# Altium schematic symbol library E2S_E2S_033_LIBRARY.SchLib: 86 symbols (part 1 of 2)
Pins are listed as number, name and electrical type; pins without a type are passive.

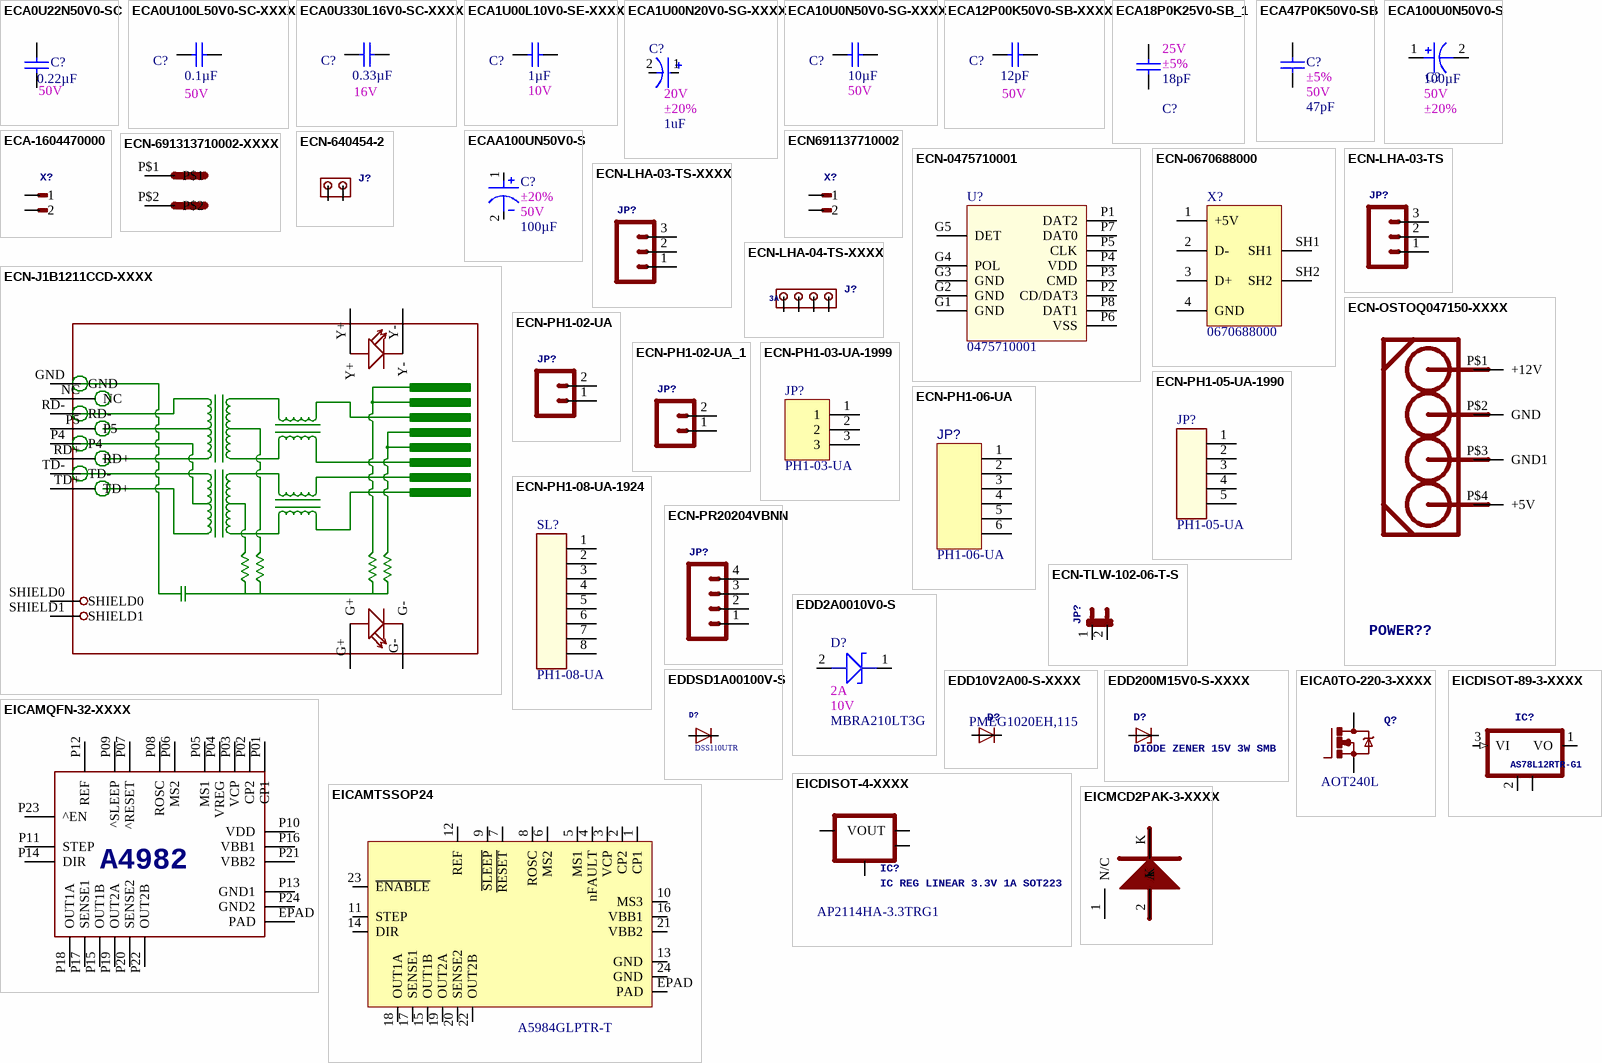
[diagram p0: symbols ECA0U22N50V0-SC to EICMCD2PAK-3-XXXX]

## ECA0U22N50V0-SC
designator C?, comment value 0.22µF  1st Auxiliary Field: 50V  (hidden comment: CAP CER 0.22UF 50V Y5V 0603)
Manufacturer: Yageo; Manufacturer Part Number: CC0603ZRY5V9BB224; Internal Part Number: ECA0U22N50V0-SC; Vendor Part Number: 311-1830-1-ND; Temp Co: Y5V (F); 3rd Auxiliary Field: ROHS3 Compliant; Component Height (mm): 0.90mm; Vendor Name: Digi-Key; 2nd Auxiliary Field: -20%, +80%; Part Type: CAP CER 0.22UF 50V Y5V 0603; 4th Auxiliary Field: *
footprint SMDC0603 (Footprint not found)
pins: 1, 2

## ECA0U100L50V0-SC-XXXX
designator C?, comment value 0.1µF  1st Auxiliary Field: 50V  (hidden comment: CAP CER 0.1UF 50V X7R 0603)
Manufacturer: Samsung Electro-Mechanics; Vendor Part Number: 1276-1935-1-ND; Manufacturer Part Number: CL10B104KB8NNWC; Internal Part Number: ECA0U100L50V0-SC-XXXX; Vendor Name: Digi-Key; 4th Auxiliary Field: RoHS Compliant; Component Height (mm): 0.90mm; Part Type: CAP CER 0.1UF 50V X7R 0603; 3rd Auxiliary Field: *; Temp Co: X7R; 2nd Auxiliary Field: 0.1µF
footprint SMDC0603 (Footprint not found)
pins: 1, 2

## ECA0U330L16V0-SC-XXXX
designator C?, comment value 0.33µF  1st Auxiliary Field: 16V  (hidden comment: CAP CER 0.33UF 16V X7R 0603)
Manufacturer: Samsung Electro-Mechanics; Vendor Part Number: 1276-2048-1-ND; Manufacturer Part Number: CL10B334KO8NNNC; Internal Part Number: ECA0U330L16V0-SC-XXXX; Vendor Name: Digi-Key; 4th Auxiliary Field: RoHS Compliant; Component Height (mm): 0.90mm; Part Type: CAP CER 0.33UF 16V X7R 0603; 3rd Auxiliary Field: *; Temp Co: X7R; 2nd Auxiliary Field: 0.33µF
footprint SMDC0603 (Footprint not found)
pins: 1, 2

## ECA1U00L10V0-SE-XXXX
designator C?, comment value 1µF  1st Auxiliary Field: 10V  (hidden comment: CAP CER 1UF 10V X7R 0805)
Manufacturer: Samsung Electro-Mechanics; Vendor Part Number: 1276-1275-1-ND; Manufacturer Part Number: CL21B105KPFNNNE; Internal Part Number: ECA1U00L10V0-SE-XXXX; Vendor Name: Digi-Key; 4th Auxiliary Field: RoHS Compliant; Component Height (mm): 1.35mm; Temp Co: C0G, NP0; Part Type: CAP CER 1UF 10V X7R 0805; 3rd Auxiliary Field: *; 2nd Auxiliary Field: 1µF
footprint SMDC0805 (Footprint not found)
pins: 1, 2

## ECA1U00N20V0-SG-XXXX
designator C?, comment value 1uF  1st Auxiliary Field: 20V  2nd Auxiliary Field: ±20%  (hidden comment: CAP TANT 1UF 20% 20V 1206)
Manufacturer: AVX Corporation; Manufacturer Part Number: TAJA105M020RNJ; Internal Part Number: ECA1U00N20V0-SG-XXXX; Vendor Part Number: 478-5748-1-ND; Component Height (mm): 1.80mm; Vendor Name: Digi-Key; Temp Co: -55°C ~ 125°C; Part Type: CAP TANT 1UF 20% 20V 1206; 3rd Auxiliary Field: *; 4th Auxiliary Field: *
footprint SMDC1206_TANT (Footprint not found)
pins: 1 +VE, 2 -VE

## ECA10U0N50V0-SG-XXXX
designator C?, comment value 10µF  1st Auxiliary Field: 50V  (hidden comment: CAP CER 10UF 50V X5R 1206)
Manufacturer: Samsung Electro-Mechanics; Vendor Part Number: 1276-6736-1-ND; Manufacturer Part Number: CL31A106MBHNNNE; Internal Part Number: ECA10U0N50V0-SG-XXXX; Vendor Name: Digi-Key; 4th Auxiliary Field: RoHS Compliant; Component Height (mm): 1.80mm; Part Type: CAP CER 10UF 50V X5R 1206; 3rd Auxiliary Field: *; Temp Co: X5R; 2nd Auxiliary Field: 10µF
footprint SMDC1206 (Footprint not found)
pins: 1, 2

## ECA12P00K50V0-SB-XXXX
designator C?, comment value 12pF  1st Auxiliary Field: 50V  (hidden comment: CAP CER 12PF 50V C0G/NPO 0402)
Manufacturer: Yageo; Vendor Part Number: 311-1016-1-ND; Manufacturer Part Number: CC0402JRNPO9BN120; Internal Part Number: ECA12P00K50V0-SB-XXXX; Vendor Name: Digi-Key; 4th Auxiliary Field: RoHS Compliant; Component Height (mm): 0.55mm; Temp Co: C0G, NP0; Part Type: CAP CER 12PF 50V C0G/NPO 0402; 3rd Auxiliary Field: *; 2nd Auxiliary Field: 12pF
footprint SMDC0402
pins: 1, 2

## ECA18P0K25V0-SB_1
designator C?, comment value 18pF  1st Auxiliary Field: 25V  2nd Auxiliary Field: ±5%  (hidden comment: CAP CER 18PF 25V C0G/NP0 0402)
Manufacturer: Walsin Technology Corporation; Manufacturer Part Number: 0402N180J250CT; Internal Part Number: ECA18P0K25V0-SB_1; Vendor Part Number: 1292-1265-1-ND; Component Height (mm): 0.55mm; 3rd Auxiliary Field: ROHS3 Compliant; Temp Co: C0G, NP0; Vendor Name: Digi-Key; Part Type: CAP CER 18PF 25V C0G/NP0 0402; 4th Auxiliary Field: *
footprint SMDC0402 (Footprint not found)
pins: 1, 2

## ECA47P0K50V0-SB
designator C?, comment value 47pF  2nd Auxiliary Field: ±5%  1st Auxiliary Field: 50V  (hidden comment: CAP CER 47PF 50V C0G/NP0 0402)
Manufacturer: Samsung Electro-Mechanics; Manufacturer Part Number: CL05C470JB5NNNC; Internal Part Number: ECA47P0K50V0-SB; Vendor Part Number: 1276-1699-1-ND; Temp Co: C0G, NP0; 3rd Auxiliary Field: ROHS3 Compliant; Component Height (mm): 0.55MM; Vendor Name: Digi-Key; Part Type: CAP CER 47PF 50V C0G/NP0 0402; 4th Auxiliary Field: *
footprint SMDC0402 (Footprint not found)
pins: 1, 2

## ECA100U0N50V0-S
designator C?, comment value 100µF  1st Auxiliary Field: 50V  2nd Auxiliary Field: ±20%  (hidden comment: CAP ALUM 100UF 20% 50V SMD)
Manufacturer: Nichicon; Manufacturer Part Number: UWT1H101MNL1GS; Internal Part Number: ECA100U0N50V0-S; Vendor Part Number: 493-2226-1-ND; 3rd Auxiliary Field: ROHS3 Compliant; Component Height (mm): 10.50mm; Vendor Name: Digi-Key; Temp Co: -55°C ~ 105°C; Part Type: CAP ALUM 100UF 20% 50V SMD; 4th Auxiliary Field: *
footprint CAPAE830X1050N (Footprint not found)
pins: 1 +VE, 2 -VE

## ECA-1604470000
designator X?, comment TERM BLOCK HDR 2POS VERT 3.5MM  (value not drawn)
Manufacturer Part Number: 1604470000; Manufacturer: Weidmüller; Vendor Part Number: 281-4551-ND; Internal Part Number: ECA-1604470000; Vendor: MALE-2; 1st Auxiliary Field: 3.50mm; 2nd Auxiliary Field: 17A; 3rd Auxiliary Field: RoHS; Value: 1604470000; Temp Co: -50°C ~ 100°C; 4rth Auxiliary Field: *; Component height: 11.10mm; Part Type: TERM BLOCK HDR 2POS VERT 3.5MM
footprint WEIDMULLER_1604470000 (Footprint not found)
pins: 1, 2

## ECAA100UN50V0-S
designator C?, comment value 100µF  2nd Auxiliary Field: ±20%  1st Auxiliary Field: 50V  (hidden comment: CAP ALUM 100UF 20% 50V SMD)
Manufacturer: Nichicon; Vendor Part Number: 493-2226-1-ND; Manufacturer Part Number: UWT1H101MNL1GS; Internal Part Number: ECAA100UN50V0-S; Vendor Name: Digi-Key; Component Height (mm): 10.50mm; Temp Co: -55°C ~ 105°C; Part Type: CAP ALUM 100UF 20% 50V SMD; 3rd Auxiliary Field: *; 4th Auxiliary Field: *
footprint CAPRR500W80L1000T1000H1750P (UVK2G100MPD1TD 10µF 400V Aluminum Capacitors Radial, Can 2000 Hrs @ 85°C)
pins: 1 +VE, 2 -VE

## ECN691137710002
designator X?, comment TERM BLK 2POS SIDE ENTRY 5MM PCB  (value not drawn)
Manufacturer Name: Würth Elektronik; Manufacturer Part Number: 691137710002; Vendor Part Number: 732-10955-ND; Internal Part Number: ECN691137710002; 3rd Auxiliary Field: 5.00mm pitch; 1st Auxiliary Field: 300V; 4rth Auxiliary Field: ROHS3 Compliant; 2nd Auxiliary Field: 16A; Vendor Name: Digikey; Value: 691137710002; Temp Co: -30°C ~ 120°C; Part Type: TERM BLK 2POS SIDE ENTRY 5MM PCB
footprint WURTH_691322110002 (Footprint not found)
pins: 1, 2

## ECN-640454-2
designator J?, comment CONN HEADER VERT 2POS 2.54MM  (value not drawn)
Manufacturer Part Number: 640454-2; Vendor Part Number: A19423-ND; Internal Part Number: ECN-640454-2; Manufacturer: TE Connectivity AMP Connectors; 3rd Auxiliary Field: RoHS Compliant; 2nd Auxiliary Field: 250VAC; Vendor: Digikey; Temp Co: -55°C ~ 105°C; Value: 640454-2; 1st Auxiliary Field: 2.54mm; 4rth Auxiliary Field: *; Part Type: CONN HEADER VERT 2POS 2.54MM; Component Height: 13.59mm
footprint TE_640454-2 (Footprint not found)
pins: 1, 2

## ECN-0475710001
designator U?, comment value 0475710001  (hidden comment: CONN MICRO SD CARD PUSH-PULL R/A)
Internal Part Number: ECN-0475710001; Manufacturer: Molex; Vendor Part Number: WM9731CT-ND; 1st Auxiliary Field: 9 (8 + 1); 2nd Auxiliary Field: Push In, Pull Out; 3rd Auxiliary Field: Surface Mount, Right Angle; 4th Auxiliary Field: ROHS3 Compliant; Component Height (mm): 2.30mm; Vendor Name: Digi-Key; Manufacturer Part Number: 0475710001; Part Type: CONN MICRO SD CARD PUSH-PULL R/A; Temp Co: *
footprint MOLEX_0475710001
pins: G1 GND, G2 GND, G3 GND, G4 POL, G5 DET, P1 DAT2, P2 CD/DAT3, P3 CMD, P4 VDD, P5 CLK, P6 VSS, P7 DAT0, P8 DAT1

## ECN-0670688000
designator X?, comment value 0670688000  (hidden comment: CONN RCPT USB2.0 TYPEB 4POS R/A)
Manufacturer: Molex; Internal Part Number: ECN-0670688000; Vendor Part number: WM17113-ND; 1st Auxiliary Field: 30V; 2nd Auxiliary Field: 1.5A; 3rd Auxiliary Field: USB-B (USB TYPE-B); 4th Auxiliary Field: ROHS3 Compliant; Component Height (mm): 11.25mm; Temp Co: 0°C ~ 50°C; Vendor Name: Digi-Key; Manufacturer Part Number: 0670688000; Part Type: CONN RCPT USB2.0 TYPEB 4POS R/A
footprint MOLEX_0670688000 (Footprint not found)
pins: 1 +5V, 2 D-, 3 D+, 4 GND, SH1, SH2

## ECN-691313710002-XXXX
designator U$?, comment TERM BLOCK HDR 2POS 90DEG 5MM  (value not drawn)
Manufacturer Name: Würth Elektronik; Manufacturer Part Number: 691313710002; Vendor Part Number: 732-2799-ND; Internal Part Number: ECN-691313710002-XXXX; 4rth Auxiliary field: ROHS3; 1st Auxiliary field: 300V; 3rd Auxiliary field: 5MM Connector; 2nd Auxiliary field: 20A; Vendor Name: Digikey; Temp Co: -40°C ~ 105°C; Component Height(mm): 12mm; Value: 691313710002; Part Type: TERM BLOCK HDR 2POS 90DEG 5MM
footprint WURTH_691313710002 (Footprint not found)
pins: P$1, P$2

## ECN-J1B1211CCD-XXXX
designator RJ?, comment CONN JACK 1PORT 100 BASE-T PCB  (value not drawn)
Vendor Part Number: 1278-1052-ND; Internal part number: ECN-J1B1211CCD-XXXX; Manufacturer name: WIZnet; Manufacturer Part Number: J1B1211CCD; Vendor Name: Digikey; Temp Co: -40°C ~ 85°C; Component Height(mm): 13.6mm; 3rd Auxiliary Field: RJ45; 4rth Auxiliary Field: ROHS3 Compliant; 1st Auxiliary Field: 10/100 Base-T, AutoMDIX; 2nd Auxiliary Field: Green - Yellow; Value: J1B1211CCD; Part type: CONN JACK 1PORT 100 BASE-T PCB
footprint WIZnet_J1B1211CCD (Footprint not found)
pins: G+, G-, GND, NC, P4, P5, RD+, RD-, SHIELD0, SHIELD1, TD+, TD-, Y+, Y-

## ECN-LHA-03-TS
designator JP?, comment CONN HEADER VERT 3POS 2.54MM  (value not drawn)
Manufacturer part number: LHA-03-TS; Manufacturer Name: Adam Tech; Vendor part number: 2057-LHA-03-TS-ND; Internal part number: ECN-LHA-03-TS; 3rd Auxiliary Field: ROHS3 Compliant; 1st Auxiliary Field: 250VAC; 2nd Auxiliary Field: 3A; Temp Co: -25°C ~ 85°C; Part type: CONN HEADER VERT 3POS 2.54MM; Component height: 14.20mm
footprint MOLEX-1X3
pins: 1, 2, 3

## ECN-LHA-03-TS-XXXX
designator JP?, comment CONN HEADER VERT 3POS 2.54MM  (value not drawn)
Manufacturer part number: LHA-03-TS; Manufacturer Name: Adam Tech; Vendor part number: 2057-LHA-03-TS-ND; Internal part number: ECN-LHA-03-TS-XXXX; 3rd Auxiliary Field: 2.54mm pitch; 1st Auxiliary Field: 250VAC; 2nd Auxiliary Field: 3A; Temp Co: -25°C ~ 85°C; 4rth Auxiliary Field: ROHS3 Compliant; Part type: CONN HEADER VERT 3POS 2.54MM; Component height: 14.20mm
footprint MOLEX-1X3
pins: 1, 2, 3

## ECN-LHA-04-TS-XXXX
designator J?, comment 2nd auxillary field: 3A  (hidden comment: CONN HEADER VERT 4POS 2.54MM)
Manufacturer Part Number: LHA-04-TS; Manufacturer Name: Adam Tech; Vendor Part number: 2057-LHA-04-TS-ND; Internal Part Number: ECN-LHA-04-TS-XXXX; 4rth auxillary field: ROHS3 Compliant; 1st auxillary field: 250VAC; Vendor Name: Digikey; Component Height(mm): 14.20mm; Temp Co: -25°C ~ 85°C; 3rd  auxillary field: *; Part Type: CONN HEADER VERT 4POS 2.54MM
footprint ADAM_ LHA-04-TS (Footprint not found)
pins: 1, 2, 3, 4

## ECN-OSTOQ047150-XXXX
designator POWER??, comment TERM BLOCK HDR 4POS VERT 5MM  (value not drawn)
Manufacturer Part Number: OSTOQ047150; Manufacturer Name: On Shore Technology Inc.; Vendor Part Number: ED2801-ND; Internal Part Number: ECN-OSTOQ047150-XXXX; 3rd Auxiliary Field: ROHS3; 1st Auxiliary Field: 300V; Vendor Name: Digikey; Temp Co: -30°C ~ 105°C; Component Height(mm): 4.00mm; Value: OSTOQ047150; 2nd Auxiliary Field: 4 POS; 4rth Auxiliary Field: ROHS3; Part type: TERM BLOCK HDR 4POS VERT 5MM
footprint ON_OSTOQ047150 (Footprint not found)
pins: P$1 +12V (power), P$2 GND (power), P$3 GND1 (power), P$4 +5V (power)

## ECN-PH1-02-UA
designator JP?, comment CONN HEADER VERT 2POS 2.54MM  (value not drawn)
Manufacturer: Adam Tech; Manufacturer Part Number: 2057-PH1-02-UA-ND; Internal Part Number: ECN-PH1-02-UA; 1st Auxiliary Field: 250VAC; 4rth  Auxiliary Field: ROHS3 Compliant; 2nd Auxiliary Field: 3A; Vendor: Digikey; Temp Co: 40°C ~ 105°C; Value: 2057-PH1-02-UA-ND; Component Height(mm): 11.54mm; 3rd Auxiliary Field: 2.54mm; Vendor Part Number: 2057-PH1-02-UA-ND; Part Type: CONN HEADER VERT 2POS 2.54MM
footprint HDRV2W64P254_1X2_508X254X1062P (Footprint not found)
pins: 1, 2

## ECN-PH1-02-UA_1
designator JP?
Manufacturer Part Number: DNP; Value: DNP
footprint * (Footprint not found)
pins: 1, 2

## ECN-PH1-03-UA-1999
designator JP?, comment value PH1-03-UA  (hidden comment: CONN HEADER VERT 3POS 2.54MM)
Manufacturer: Adam Tech; Internal Part Number: ECN-PH1-03-UA-1999; Vendor Part Number: 2057-PH1-03-UA-ND; 3rd Auxiliary Field: ROHS3 Compliant; Component Height (mm): 8.5 MM; Vendor Name: Digi-Key; Temp Co: -40°C ~ 105°C; 2nd Auxiliary Field: 3A per Contact; Part Type: CONN HEADER VERT 3POS 2.54MM; 4th Auxiliary Field: *; Manufacturer Part Number: PH1-03-UA; 1st Auxiliary Field: 3 Pos
footprint HDRV3W102P254_1X3_762X254X838P (68000-103HLF, BERGSTIK II .100" SR STRAIGHT 3 POS)
pins: 1 (power), 2 (power), 3 (power)
1 alternate drawing of the same symbol

## ECN-PH1-05-UA-1990
designator JP?, comment value PH1-05-UA  (hidden comment: CONN HEADER VERT 5POS 2.54MM)
Internal Part Number: ECN-PH1-05-UA-1990; Manufacturer: Adam Tech; Vendor Part Number: 2057-PH1-05-UA-ND; 1st Auxiliary Field: 250VAC; 2nd Auxiliary Field: 3A; 3rd Auxiliary Field: RoHS3 Compliant; Component Height (mm): 8.50mm; Temp Co: -40°C ~ 105°C; Vendor Name: Digi-Key; 4th Auxiliary Field: *; Manufacturer Part Number: PH1-05-UA; Part Type: CONN HEADER VERT 5POS 2.54MM
footprint HDRV5W64P254_1X5_1270X254X1062P (CONN HEADER .100 SINGL STR 5POS)
pins: 1, 2, 3, 4, 5

## ECN-PH1-06-UA
designator JP?, comment value PH1-06-UA  (hidden comment: CONN HEADER VERT 6POS 2.54MM)
Manufacturer: Adam Tech; Internal Part Number: ECN-PH1-06-UA; Vendor Part Number: 2057-PH1-06-UA-ND; 3rd Auxiliary Field: 0.100" (2.54mm); Component Height (mm): 0.454" (11.54mm); Temp Co: -40°C ~ 105°C; 4th Auxiliary Field: ROHS3 Compliant; Vendor Name: Digi-Key; 2nd Auxiliary Field: Through Hole; Manufacturer Part Number: PH1-06-UA; Part Type: CONN HEADER VERT 6POS 2.54MM; 1st Auxiliary Field: Header
footprint HDRV6W102P254_1X6_1524X250X85P (PPTC061LFBN-RC, Connector Header 6 Position 0.100" (2.54mm) Tin Through Hole)
pins: 1, 2, 3, 4, 5, 6

## ECN-PH1-08-UA-1924
designator SL?, comment value PH1-08-UA  (hidden comment: CONN HEADER VERT 8POS 2.54MM)
Internal Part Number: ECN-PH1-08-UA-1924; Manufacturer: Adam Tech; Vendor Part Number: 2057-PH1-08-UA-ND; 1st Auxiliary Field: 250VAC; 2nd Auxiliary Field: 3A; 3rd Auxiliary Field: RoHS3 Compliant; Component Height (mm): 8.50mm; Temp Co: -40°C ~ 105°C; Vendor Name: Digi-Key; 4th Auxiliary Field: *; Manufacturer Part Number: PH1-08-UA; Part Type: CONN HEADER VERT 8POS 2.54MM
footprint HDRV8W64P254_1X8_2032X250X850P (Footprint not found)
pins: 1, 2, 3, 4, 5, 6, 7, 8

## ECN-PR20204VBNN
designator JP?, comment PIN HEADER, THR, SINGLE ROW, .10  (value not drawn)
Manufacturer: METZ CONNECT USA Inc.; Manufacturer Part Number: PR20204VBNN; Vendor Part Number: 1849-PR20204VBNN-ND; Internal Part Number: ECN-PR20204VBNN; 3rd Auxiliary Field: ROHS3 Compliant; 1st Auxiliary Field: 3A; 2nd Auxiliary Field: 2.54mm; Vendor: Digikey; Value: PR20204VBNN; Temp Co: -40°C ~ 105°C; Component Height(mm): 11.6mm; 4rth Auxiliary Field: *; Part Type: PIN HEADER, THR, SINGLE ROW, .10
footprint HDRV4W102P254_1X4_1016X254X838P (Footprint not found)
pins: 1, 2, 3, 4

## ECN-TLW-102-06-T-S
designator JP?, comment CONN HEADER VERT 2POS 2.54MM  (value not drawn)
Manufacturer: Samtec Inc.; Manufacturer Part Number: MTLW-102-07-G-S-230; Vendor Part Number: SAM15239-ND; Internal Part Number: ECN-MTLW-102-07-G-S-230; 4rth Auxiliary Field: ROHS3 Compliant; 2nd Auxiliary Field: 5.2A per Contact; Vendor: Digikey; Temp Co: -55°C ~ 125°C; Value: MTLW-102-07-G-S-230; 3rd Auxiliary Field: 2.54mm; 1st Auxiliary Field: *; Part Type: CONN HEADER VERT 2POS 2.54MM; Component Height: 10.92mm
footprint JP1
pins: 1, 2

## EDD2A0010V0-S
designator D?, comment value MBRA210LT3G  2nd Auxiliary Field: 2A  1st Auxiliary Field: 10V  (hidden comment: DIODE SCHOTTKY 10V 2A SMA)
Manufacturer: ON Semiconductor; Vendor Part Number: MBRA210LT3GOSCT-ND; Internal Part Number: EDD2A0010V0-S; Vendor Name: Digi-Key; Component Height (mm): 2.2mm; Temp Co: -55°C ~ 125°C; Part Type: DIODE SCHOTTKY 10V 2A SMA; 3rd Auxiliary Field: *; Manufacturer Part Number: MBRA210LT3G; 4th Auxiliary Field: *
footprint DIOM5224X230N (Footprint not found)
pins: 1 Cathode, 2 Anode

## EDD10V2A00-S-XXXX
designator D?, comment value PMEG1020EH,115  (hidden comment: DIODE SCHOTTKY 10V 2A SOD123F)
Manufacturer Name: Nexperia USA Inc.; Vendor Part Number: 1727-3849-1-ND; Internal Part Number: EDD10V2A00-S-XXXX; 4rth Auxiliary Field: ROHS3 Compliant; 2nd Auxiliary Field: 2A (DC); Vendor Name: Digikey; 3rd Auxiliary Field: Schottky; Part Type: DIODE SCHOTTKY 10V 2A SOD123F; 1st Auxiliary Field: 10V; Manufacturer Part Number: PMEG1020EH,115; Operating Temperature: 150°C (Max)
footprint EDD10V2A00-S-XXXX (Footprint not found)
pins: A, C

## EDD200M15V0-S-XXXX
designator D?, comment DIODE ZENER 15V 3W SMB
Manufacturer Name: ON Semiconductor; Manufacturer Part Number: 1SMB5929BT3G; Vendor Part Number: 1SMB5929BT3GOSCT-ND; Internal Part Number: EDD200M15V0-S-XXXX; 3rd Auxiliary Field: 200mA; 4rth Auxiliary Field: ROHS3 Compliant; Vendor Name: Digikey; Temp Co: -65°C ~ 150°C; Value: 1SMB5929BT3G; 1st Auxiliary Field: 15V; 2nd Auxiliary Field: 3W; Part type: DIODE ZENER 15V 3W SMB
footprint DIOM4336X25N (Footprint not found)
pins: A, C

## EDDSD1A00100V-S
designator D?, comment value DSS110UTR  (hidden comment: SCHOTTKY 100V SOD-123FL)
Manufacturer Name: SMC Diode Solutions; Vendor Part Number: 1655-1931-1-ND; Internal Part Number: EDDSD1A00100V-S; 3rd Auxiliary Field: ROHS3; 2nd Auxiliary Field: 1A; Vendor Name: Digikey; Temp Co: -55°C ~ 150°C; Manufacturer part number: DSS110UTR; 1st Auxiliary Field: 100V; 4rth Auxiliary Field: *; Part Type: SCHOTTKY 100V SOD-123FL
footprint SODFL360X110-2N (Footprint not found)
pins: A, C

## EICA0TO-220-3-XXXX
designator Q?, comment value AOT240L  (hidden comment: MOSFET N-CH 40V 20A/105A TO220)
Manufacturer: Alpha & Omega Semiconductor Inc.; Vendor Part Number: 785-1270-5-ND; Internal Part Number: EICA0TO-220-3-XXXX; 2nd Auxiliary Field: 20A (Ta), 105A (Tc); 3rd Auxiliary Field: N-Channel; Vendor: Digikey; 4rth Auxiliary Field: ROHS3 Compliant; Temp Co: -55°C ~ 175°C (TJ); 1st Auxiliary Field: 40V; Component Height: *; Part Type: MOSFET N-CH 40V 20A/105A TO220; Manufacturer Part Number: AOT240L
footprint Alpha_ AOT240L (Footprint not found)
pins: D, G, S

## EICAMQFN-32-XXXX
designator IC?, comment 1st Auxiliary Field: A4982  (hidden comment: IC MTR DRVR BIPOLAR 3-5.5V 32QFN)
Manufacturer Part Number: A4982SETTR-T; Manufacturer: Allegro MicroSystems; Vendor Part Number: 620-1340-1-ND; Internal Part Number: EICAMQFN-32-XXXX; 4rth Auxiliary Field: ROHS3 Compliant; 2nd Auxiliary Field: 1, 1/2, 1/4, 1/16; 3rd Auxiliary Field: 8V ~ 35V; Vendor: Digikey; Value: A4982SETTR-T; Temp Co: 20°C ~ 150°C (TJ); Component Height(mm): *; Part Type: IC MTR DRVR BIPOLAR 3-5.5V 32QFN
footprint TSOP65P630X120-24N (Footprint not found)
pins: EPAD PAD, P01 CP1, P02 CP2, P03 VCP, P04 VREG, P05 MS1, P06 MS2, P07 ^RESET, P08 ROSC, P09 ^SLEEP, P10 VDD, P11 STEP, P12 REF, P13 GND1, P14 DIR, P15 OUT1B, P16 VBB1, P17 SENSE1, P18 OUT1A, P19 OUT2A, P20 SENSE2, P21 VBB2, P22 OUT2B, P23 ^EN, P24 GND2

## EICAMTSSOP24
designator IC?, comment value A5984GLPTR-T  (hidden comment: IC MTR DRV BIPOLAR 8-40V 24TSSOP)
Manufacturer: Allegro MicroSystems; Vendor Part Number: 620-1787-1-ND; Internal Part Number: EICAMTSSOP24; 4rth Auxiliary Field: ROHS3 Compliant; 2nd Auxiliary Field: 1 ~ 1/32; 3rd Auxiliary Field: 8V ~ 40V; Vendor: Digikey; Temp Co: -40°C ~ 150°C (TJ); Manufacturer Part Number: A5984GLPTR-T; Component Height(mm): *; Part Type: IC MTR DRV BIPOLAR 8-40V 24TSSOP; 1st Auxiliary Field: Bipolar
footprint TSOP65P630X120-24N (Footprint not found)
pins: 1 CP1, 2 CP2, 3 VCP, 4 nFAULT, 5 MS1, 6 MS2, 7 ~{RESET}, 8 ROSC, 9 ~{SLEEP}, 10 MS3, 11 STEP, 12 REF, 13 GND, 14 DIR, 15 OUT1B, 16 VBB1, 17 SENSE1, 18 OUT1A, 19 OUT2A, 20 SENSE2, 21 VBB2, 22 OUT2B, 23 ~{ENABLE}, 24 GND, EPAD PAD

## EICDISOT-4-XXXX
designator IC?, comment IC REG LINEAR 3.3V 1A SOT223  value AP2114HA-3.3TRG1
Vendor Part Number: AP2114HA-3.3TRG1DICT-ND; Manufacturer: Diodes Incorporated; Internal Part Number: EICDISOT-4-XXXX; Vendor Name: Digikey; Temp Co: -40°C ~ 85°C; 4th Auxiliary Field: Fixed Output Type; 3rd Auxiliary Field: Positive output configuration; Part Type: IC REG LINEAR 3.3V 1A SOT223; 2nd Auxiliary Field: 1A; 1st Auxiliary Field: 3.3V; Manufacturer Part Number: AP2114HA-3.3TRG1
footprint SOT230P700X180-4N (Footprint not found)
pins: 1 GND, 2 VOUT, 3 VIN, 4 VOUT

## EICDISOT-89-3-XXXX
designator IC?, comment value AS78L12RTR-G1  (hidden comment: IC REG LINEAR 12V 100MA SOT89)
Vendor Part Number: AS78L12RTR-G1DICT-ND; Manufacturer: Diodes Incorporated; Internal Part Number: EICDISOT-89-3-XXXX; Temp Co: -40°C ~ 125°C; Vendor Name: Digikey; 4th Auxiliary Field: ROHS3; 3rd Auxiliary Field: Fixed; Manufacturer Part Number: AS78L12RTR-G1; Part Type: IC REG LINEAR 12V 100MA SOT89; 2nd Auxiliary Field: 100mA; 1st Auxiliary Field: 12V
footprint SOIC127P600X175-8N (Footprint not found)
pins: 1 VO, 2 GND, 2@1 GND, 3 VI (in)

## EICMCD2PAK-3-XXXX
designator D?, comment DIODE SCHOTTKY 20A 150V D2PAK  (value not drawn)
Manufacturer: Micro Commercial Co; Manufacturer Part Number: MBRB20150CT-TP; Vendor Part Number: 353-MBRB20150CT-TPCT-ND; Internal Part Number: EICMCD2PAK-3-XXXX; 4rth Auxiliary Field: ROHS3 Compliant; Vendor: Digikey; Temp Co: 55°C ~ 150°C; Value: MBRB20150CT-TP; 3rd Auxiliary Field: Schottky; 1st Auxiliary Field: 150V; 2nd Auxiliary Field: 20A; Part type: DIODE SCHOTTKY 20A 150V D2PAK; Component Height: *
footprint TO228P970-3N (Footprint not found)
pins: 1 N/C, 2 A, K

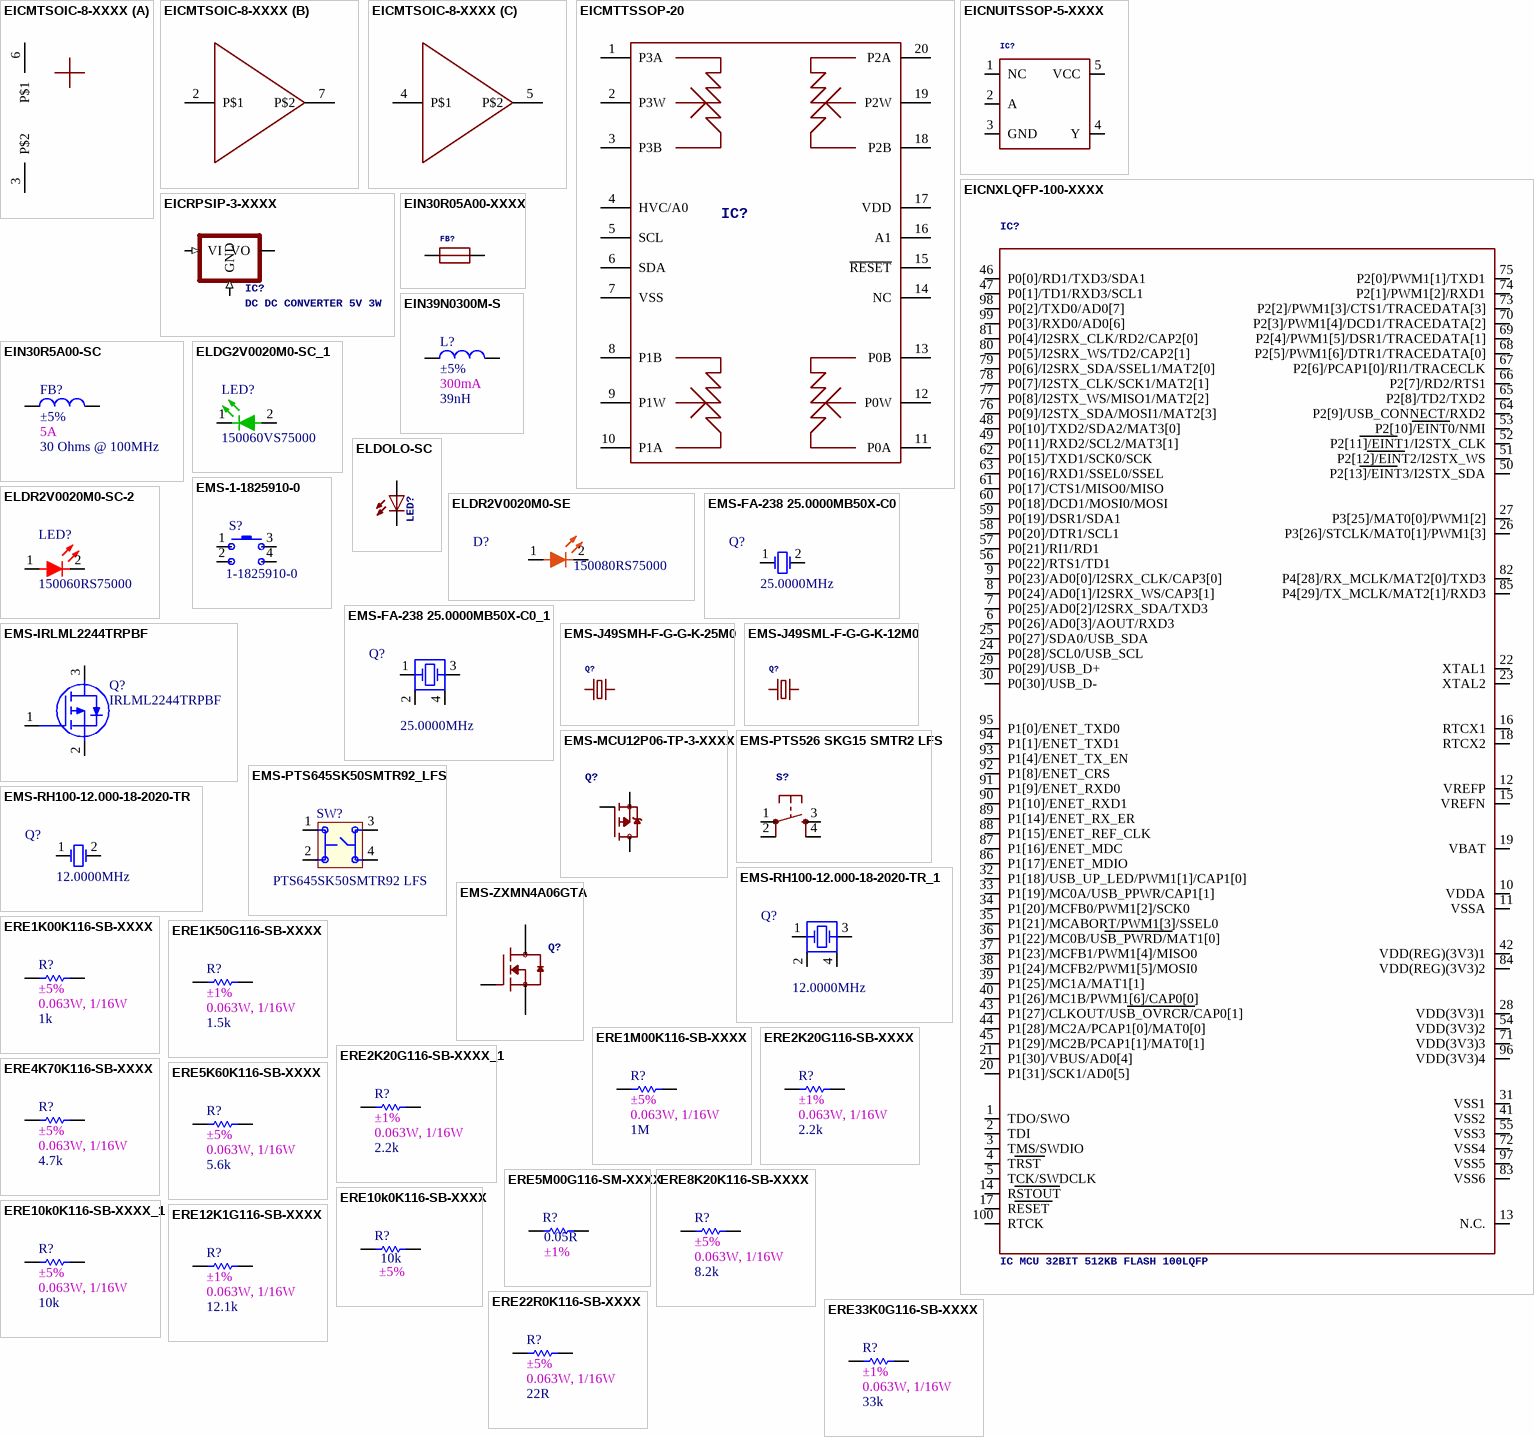
[diagram p1: symbols EICMTSOIC-8-XXXX to ERE33K0G116-SB-XXXX]

## EICMTSOIC-8-XXXX
designator IC?, comment IC GATE DRVR LOW-SIDE 8SOIC  (value not drawn)
Vendor Part Number: MIC4127YME-CT-ND; Manufacturer Part Number: MIC4127YME-TR; Internal Part Number: EICMTSOIC-8-XXXX; Manufacturer: Microchip Technology; 3rd Auxiliary Field: Non-Inverting; Vendor: Digikey; 4rth Auxiliary Field: ROHS3 Compliant; 1st Auxiliary Field: 4.5V ~ 20V; 2nd Auxiliary Field: 1.5A; Temp Co: 40°C ~ 125°C (TJ); Value: MIC4127YME-TR; Part Type: IC GATE DRVR LOW-SIDE 8SOIC; Component Height: *
footprint SOIC127P490X390X175-8N (Footprint not found)
part A pins: 3 P$2, 6 P$1
part B pins: 2 P$1, 7 P$2
part C pins: 4 P$1, 5 P$2

## EICMTTSSOP-20
designator IC?, comment IC DGT POT 50KOHM 257TAP 20TSSOP  (value not drawn)
Manufacturer: Microchip Technology; Manufacturer Part Number: MCP4461-503E/ST; Vendor Part Number: MCP4461-503E/ST-ND; Internal Part number: EICMTTSSOP-20; 1st Auxiliary Field: 50k; 2nd Auxiliary Field: I²C; 4rth Auxiliary Field: ROHS3 Compliant; 3rd Auxiliary Field: 1.8V ~ 5.5V; Vendor: Digikey; Value: MCP4451-503E/ST; Temp Co: 40°C ~ 125°C; Part Type: IC DGT POT 50KOHM 257TAP 20TSSOP; Component Height(mm): *
footprint SOP65P640X120-20N (Footprint not found)
pins: 1 P3A, 2 P3W, 3 P3B, 4 HVC/A0, 5 SCL, 6 SDA, 7 VSS, 8 P1B, 9 P1W, 10 P1A, 11 P0A, 12 P0W, 13 P0B, 14 NC, 15 ~{RESET}, 16 A1, 17 VDD, 18 P2B, 19 P2W, 20 P2A

## EICNUITSSOP-5-XXXX
designator IC?, comment IC INVERTER 1CH 1-INP 5TSSOP  (value not drawn)
Internal Part Number: EICNUITSSOP-5-XXXX; Manufacturer: Nexperia USA Inc.; Manufacturer Part Number: 74AHC1G04GW,125; Vendor Part Number: 1727-3147-1-ND; 3rd Auxiliary Field: 8mA; 1st Auxiliary Field: 1.5V ~ 3.85V; Temp Co: -40°C ~ 125°C; Value: 74AHC1G04GW,125; Vendor Name: Digikey; 4th Auxiliary Field: *; 2nd Auxiliary Field: Inverter; Part Type: IC INVERTER 1CH 1-INP 5TSSOP
footprint SOT23-5SOT65P212X110-5N (Footprint not found)
pins: 1 NC, 2 A, 3 GND (power), 4 Y, 5 VCC (power)

## EICNXLQFP-100-XXXX
designator IC?, comment IC MCU 32BIT 512KB FLASH 100LQFP
Manufacturer: NXP USA Inc.; Manufacturer Part Number: LPC1769FBD100K; Vendor Part Number: 568-LPC1769FBD100K-ND; Internal Part Number: EICNXLQFP-100-XXXX; 2nd Auxiliary Field: 512KB (512K x 8); 1st Auxiliary Field: 32-Bit; 4rth Auxiliary Field: ROHS3 Compliant; 1st Auxiliary Field: 120MHz; Vendor: Digikey; Value: LPC1769FBD100K; Temp Co: -40°C ~ 85°C (TA); Component Height(mm): *; Part Type: IC MCU 32BIT 512KB FLASH 100LQFP
footprint QFP50P1600X1600X160-100N (Footprint not found)
pins: 1 TDO/SWO, 2 TDI, 3 TMS/SWDIO, 4 TRST, 5 TCK/SWDCLK, 6 P0[26]/AD0[3]/AOUT/RXD3, 7 P0[25]/AD0[2]/I2SRX_SDA/TXD3, 8 P0[24]/AD0[1]/I2SRX_WS/CAP3[1], 9 P0[23]/AD0[0]/I2SRX_CLK/CAP3[0], 10 VDDA, 11 VSSA, 12 VREFP, 13 N.C., 14 RSTOUT, 15 VREFN, 16 RTCX1, 17 RESET, 18 RTCX2, 19 VBAT, 20 P1[31]/SCK1/AD0[5], 21 P1[30]/VBUS/AD0[4], 22 XTAL1, 23 XTAL2, 24 P0[28]/SCL0/USB_SCL, 25 P0[27]/SDA0/USB_SDA, 26 P3[26]/STCLK/MAT0[1]/PWM1[3], 27 P3[25]/MAT0[0]/PWM1[2], 28 VDD(3V3)1, 29 P0[29]/USB_D+, 30 P0[30]/USB_D-, 31 VSS1, 32 P1[18]/USB_UP_LED/PWM1[1]/CAP1[0], 33 P1[19]/MC0A/USB_PPWR/CAP1[1], 34 P1[20]/MCFB0/PWM1[2]/SCK0, 35 P1[21]/MCABORT/PWM1[3]/SSEL0, 36 P1[22]/MC0B/USB_PWRD/MAT1[0], 37 P1[23]/MCFB1/PWM1[4]/MISO0, 38 P1[24]/MCFB2/PWM1[5]/MOSI0, 39 P1[25]/MC1A/MAT1[1], 40 P1[26]/MC1B/PWM1[6]/CAP0[0], 41 VSS2, 42 VDD(REG)(3V3)1, 43 P1[27]/CLKOUT/USB_OVRCR/CAP0[1], 44 P1[28]/MC2A/PCAP1[0]/MAT0[0], 45 P1[29]/MC2B/PCAP1[1]/MAT0[1], 46 P0[0]/RD1/TXD3/SDA1, 47 P0[1]/TD1/RXD3/SCL1, 48 P0[10]/TXD2/SDA2/MAT3[0], 49 P0[11]/RXD2/SCL2/MAT3[1], 50 P2[13]/EINT3/I2STX_SDA, 51 P2[12]/EINT2/I2STX_WS, 52 P2[11]/EINT1/I2STX_CLK, 53 P2[10]/EINT0/NMI, 54 VDD(3V3)2, 55 VSS3, 56 P0[22]/RTS1/TD1, 57 P0[21]/RI1/RD1, 58 P0[20]/DTR1/SCL1, 59 P0[19]/DSR1/SDA1, 60 P0[18]/DCD1/MOSI0/MOSI, 61 P0[17]/CTS1/MISO0/MISO, 62 P0[15]/TXD1/SCK0/SCK, 63 P0[16]/RXD1/SSEL0/SSEL, 64 P2[9]/USB_CONNECT/RXD2, 65 P2[8]/TD2/TXD2, 66 P2[7]/RD2/RTS1, 67 P2[6]/PCAP1[0]/RI1/TRACECLK, 68 P2[5]/PWM1[6]/DTR1/TRACEDATA[0], 69 P2[4]/PWM1[5]/DSR1/TRACEDATA[1], 70 P2[3]/PWM1[4]/DCD1/TRACEDATA[2], 71 VDD(3V3)3, 72 VSS4, 73 P2[2]/PWM1[3]/CTS1/TRACEDATA[3], 74 P2[1]/PWM1[2]/RXD1, 75 P2[0]/PWM1[1]/TXD1, 76 P0[9]/I2STX_SDA/MOSI1/MAT2[3], 77 P0[8]/I2STX_WS/MISO1/MAT2[2], 78 P0[7]/I2STX_CLK/SCK1/MAT2[1], 79 P0[6]/I2SRX_SDA/SSEL1/MAT2[0], 80 P0[5]/I2SRX_WS/TD2/CAP2[1], 81 P0[4]/I2SRX_CLK/RD2/CAP2[0], 82 P4[28]/RX_MCLK/MAT2[0]/TXD3, 83 VSS6, 84 VDD(REG)(3V3)2, 85 P4[29]/TX_MCLK/MAT2[1]/RXD3, 86 P1[17]/ENET_MDIO, 87 P1[16]/ENET_MDC, 88 P1[15]/ENET_REF_CLK, 89 P1[14]/ENET_RX_ER, 90 P1[10]/ENET_RXD1, 91 P1[9]/ENET_RXD0, 92 P1[8]/ENET_CRS, 93 P1[4]/ENET_TX_EN, 94 P1[1]/ENET_TXD1, 95 P1[0]/ENET_TXD0, 96 VDD(3V3)4, 97 VSS5, 98 P0[2]/TXD0/AD0[7], 99 P0[3]/RXD0/AD0[6], 100 RTCK

## EICRPSIP-3-XXXX
designator IC?, comment DC DC CONVERTER 5V 3W
Manufacturer Part Number: R-78E5.0-0.5; Manufacturer: Recom Power; Vendor Part Number: 945-1648-5-ND; Internal Part Number: EICRPSIP-3-XXXX; 2nd Auxiliary Field: 500mA; Vendor: R-78; Component Height(mm): 15.01; Temp Co: -40°C ~ 85°C; 1st Auxiliary Field: 5V; 3rd Auxiliary Field: R-78; Part Type: DC DC CONVERTER 5V 3W; 4rth Auxiliary Field: 3W
footprint RECOM_ R-78E5.0-0.5 (Footprint not found)
pins: 1 VI (in), 2 GND (in), 3 VO

## EIN30R5A00-SC
designator FB?, comment value 30 Ohms @ 100MHz  2nd Auxiliary Field: ±5%  1st Auxiliary Field: 5A  (hidden comment: FERRITE BEAD 30 OHM 0603 1LN)
Manufacturer: TDK Corporation; Internal Part Number: EIN30R5A00-SC; Manufacturer Part Number: MPZ1608S300ATAH0; Vendor Part Number: 445-1562-1-ND; 3rd Auxiliary Field: RoHS Compliant; Component Height (mm): 0.75mm; 4th Auxiliary Field: 10mOhm; Vendor Name: Digi-Key; Temp Co: -55°C ~ 125°C; Part Type: FERRITE BEAD 30 OHM 0603 1LN
footprint INDADV500W62L1120D800B (RL187-102J-RC,  FIXED IND 1MH 150MA 6 OHM TH)
pins: 1, 2
1 alternate drawing of the same symbol

## EIN30R05A00-XXXX
designator FB?, comment FERRITE BEAD 30 OHM 0603 1LN  (value not drawn)
Manufacturer Part Number: MPZ1608S300ATAH0; Manufacturer Name: TDK Corporation; Vendor Part Number: 445-1562-1-ND; Internal Part Number: EIN30R05A00-XXXX; 3rd Auxiliary Field: ROHS3 Compliant; 1st Auxiliary Field: 5A; 4rth Auxiliary Field: ROHS3; Vendor Name: Digikey; Temp Co: -55°C ~ 125°C; Value: 30 ohm; 2nd Auxiliary Field: FERRITE; Part type: FERRITE BEAD 30 OHM 0603 1LN
footprint 0603
pins: 1 P$1, 2 P$2

## EIN39N0300M-S
designator L?, comment value 39nH  2nd Auxiliary Field: ±5%  1st Auxiliary Field: 300mA  (hidden comment: FERRITE BEAD 30 OHM 0603 1LN)
Manufacturer: Johanson Technology Inc.; Internal Part Number: EIN39N0300M-S; Manufacturer Part Number: L-14C39NJV4T; Vendor Part Number: 712-1441-1-ND; 3rd Auxiliary Field: RoHS Compliant; Component Height (mm): 0.75mm; 4th Auxiliary Field: 850mOhm; Vendor Name: Digi-Key; Temp Co: -55°C ~ 125°C; Part Type: FIXED IND 39NH 300MA 850 MOHM
footprint SMDL0603 (Footprint not found)
pins: 1, 2
1 alternate drawing of the same symbol

## ELDG2V0020M0-SC_1
designator LED?, comment value 150060VS75000  (hidden comment: LED GREEN CLEAR 0603 SMD)
Manufacturer: Würth Elektronik; Vendor Part Number: 732-4980-1-ND; Internal Part Number: ELDG2V0020M0-SC_1; Vendor Name: Digi-Key; 1st Auxiliary Field: 2V; 2nd Auxiliary Field: 20mA; 3rd Auxiliary Field: RoHS Compliant; Component Height (mm): 0.80mm; Part Type: LED GREEN CLEAR 0603 SMD; Manufacturer Part Number: 150060VS75000; 4th Auxiliary Field: *; Temp Co: *
footprint SMDLED0603 (Footprint not found)
pins: 1 A, 2 K

## ELDOLO-SC
designator LED?, comment LED ORANGE CLEAR CHIP SMD  (value not drawn)
Manufacturer Name: Lite-On Inc.; Manufacturer Part Number: LTST-C190KFKT; Vendor Part Number: 160-1434-1-ND; Internal Part Number: ELDOLO-SC; 1st Auxiliary Field: 2V; 4rth Auxiliary Field: ROHS3 Compliant; 2nd Auxiliary Field: 20mA; Vendor Name: Digikey; Value: LTST-C190KFKT; Component Height(mm): 0.90mm; 3rd Auxiliary Field: Orange; Part Type: LED ORANGE CLEAR CHIP SMD; Temp Co: *
footprint CHIP-LED0805
pins: A, C

## ELDR2V0020M0-SC-2
designator LED?, comment value 150060RS75000  (hidden comment: LED RED CLEAR 0603 SMD)
Manufacturer: Würth Elektronik; Internal Part Number: ELDR2V0020M0-SC-2; Vendor Part Number: 732-4978-1-ND; Component Height (mm): 0.8mm; 3rd Auxiliary Field: RoHS Compliant; Vendor Name: Digi-Key; 1st Auxiliary Field: 2V; 2nd Auxiliary Field: 20mA; Part Type: LED RED CLEAR 0603 SMD; 4th Auxiliary Field: *; Manufacturer Part Number: 150060RS75000; Temp Co: *
footprint SMDLEDR0603 (LED GREEN CLEAR THIN 0603 SMD-LTST-C191KGKT)
pins: 1 A, 2 K

## ELDR2V0020M0-SE
designator D?, comment value 150080RS75000  (hidden comment: LED RED CLEAR 0805 SMD)
Manufacturer: Wurth Electronics Inc.; Internal Part Number: ELDR2V0020M0-SE; Vendor Part Number: 732-4984-1-ND; Component Height (mm): 0.8mm; 3rd Auxiliary Field: RoHS Compliant; Vendor Name: Digi-Key; 1st Auxiliary Field: 2V; 2nd Auxiliary Field: 20mA; Part Type: LED RED CLEAR 0805 SMD; 4th Auxiliary Field: *; Manufacturer Part Number: 150080RS75000; Temp Co: *
footprint SMDLED0805
pins: 1 A, 2 K

## EMS-1-1825910-0
designator S?, comment value 1-1825910-0  (hidden comment: SWITCH TACTILE SPST-NO 0.05A 24V)
Manufacturer: TE Connectivity ALCOSWITCH Switches; Internal Part Number: EMS-1-1825910-0; Vendor Part Number: 450-1652-ND; 1st Auxiliary Field: 0.05A @ 24VDC; 2nd Auxiliary Field: Non-Illuminated; 3rd Auxiliary Field: RoHS Compliant; Component Height (mm): 2.50mm; Temp Co: -35°C ~ 85°C; Vendor Name: Digi-Key; Part Type: SWITCH TACTILE SPST-NO 0.05A 24V; 4th Auxiliary Field: *; Manufacturer Part Number: 1-1825910-0
footprint SW_1-1825910-0 (Footprint not found)
pins: 1, 2, 3, 4

## EMS-FA-238 25.0000MB50X-C0
designator Q?, comment value 25.0000MHz  (hidden comment: CRYSTAL 25.0000MHZ 18PF SMD)
Manufacturer: EPSON; Manufacturer Part Number: FA-238 25.0000MB50X-C0; Internal Part Number: EMS-FA-238 25.0000MB50X-C0; Vendor Part Number: SER4259CT-ND; 2nd Auxiliary Field: 25MHz; Component Height (mm): 0.70mm; Temp Co: -40°C ~ 85°C; Vendor Name: Digi-Key; 3rd Auxiliary Field: *; Part Type: CRYSTAL 25.0000MHZ 18PF SMD; 4th Auxiliary Field: *; 1st Auxiliary Field: 18pF
pins: 1 XTAL_IN, 2 XTAL_OUT

## EMS-FA-238 25.0000MB50X-C0_1
designator Q?, comment value 25.0000MHz  (hidden comment: CRYSTAL 25.0000MHZ 18PF SMD)
Manufacturer: EPSON; Manufacturer Part Number: FA-238 25.0000MB50X-C0; Internal Part Number: EMS-FA-238 25.0000MB50X-C0; Vendor Part Number: SER4259CT-ND; 2nd Auxiliary Field: 25MHz; Component Height (mm): 0.70mm; Temp Co: -40°C ~ 85°C; Vendor Name: Digi-Key; 3rd Auxiliary Field: *; Part Type: CRYSTAL 25.0000MHZ 18PF SMD; 4th Auxiliary Field: *; 1st Auxiliary Field: 18pF
footprint XTAL320X250X08 (Footprint not found)
pins: 1 OSC1, 2 GND, 3 OSC2, 4 GND

## EMS-IRLML2244TRPBF
designator Q?, comment value IRLML2244TRPBF  (hidden comment: P-Channel 20V 4.3A (Ta) 1.3W (Ta) Surface Mount Micro3™/SOT-23)
Manufacturer: Infineon Technologies; Internal Part Number: EMS-IRLML2244TRPBF; Vendor Part Number: IRLML2244TRPBFCT-ND; Component Height (mm): 1.12mm; Temp Co: -55°C ~ 150°C (TJ); Vendor Name: Digi-Key; 1st Auxiliary Field: 20V; 2nd Auxiliary Field: 4.3A (Ta); 3rd Auxiliary Field: *; Part Type: P-Channel 20V 4.3A (Ta) 1.3W (Ta) Surface Mount Micro3™/SOT-23; 4th Auxiliary Field: *; Manufacturer Part Number: IRLML2244TRPBF
footprint SOT95P237X112-3N (Footprint not found)
pins: 1 G, 2 S, 3 D

## EMS-J49SMH-F-G-G-K-25M0
designator Q?, comment CRYSTAL 25.0000MHZ 18PF SMD  (value not drawn)
Manufacturer Name: Jauch Quartz; Manufacturer Part Number: J49SMH-F-G-G-K-25M0; Vendor Part Number: 1908-J49SMH-F-G-G-K-25M0CT-ND; Internal Part Number: EMS-J49SMH-F-G-G-K-25M0; 3rd Auxiliary Field: MHz Crystal; 4rth Auxiliary Field: ROHS3 Compliant; 2nd Auxiliary Field: 30 Ohms; Vendor Name: Digikey; Temp Co: -40°C ~ 85°C; Value: 25MHz; 1st Auxiliary Field: 18pF; Part Type: CRYSTAL 25.0000MHZ 18PF SMD
footprint XTAL1001X480X400 (Footprint not found)
pins: 1, 2

## EMS-J49SML-F-G-G-K-12M0
designator Q?, comment CRYSTAL 12.0000MHZ 18PF SMD12MHz  (value not drawn)
CRYSTAL 12.0000MHZ 18PF SMD; Manufacturer Name: Jauch Quartz; Manufacturer Part Number: J49SML-F-G-G-K-12M0; Vendor Part Number: 1908-J49SML-F-G-G-K-12M0CT-ND; Internal Part Number: EMS-J49SML-F-G-G-K-12M0; 3rd Auxiliary Field: 35 Ohms; 1st Auxiliary Field: MHz Crystal; 4rth Auxiliary Field: ROHS3; Vendor Name: Digikey; Temp Co: -40°C ~ 85°C; Value: 12MHZ; 2nd Auxiliary Field: 18pF; Part type: CRYSTAL 12.0000MHZ 18PF SMD
footprint XTAL1001X480X400 (Footprint not found)
pins: 1, 2

## EMS-MCU12P06-TP-3-XXXX
designator Q?, comment MOSFET P-CH 60V 12A DPAK  (value not drawn)
Manufacturer Name: Micro Commercial Co; Manufacturer Part Number: MCU12P06-TP; Vendor Part Number: 353-MCU12P06-TPCT-ND; Internal Part Number: EMS-MCU12P06-TP-3-XXXX; 3rd Auxiliary Field: P-Channel; 4rth Auxiliary Field: ROHS3 Compliant; 2nd Auxiliary Field: 12A (Tj); Vendor Name: Digikey; Temp Co: -55°C ~ 150°C (TJ); Value: MCU12P06-TP; 1st Auxiliary Field: 60V; Part type: MOSFET P-CH 60V 12A DPAK
footprint TACTILE_SWITCH_SMD
pins: 1 G, 2 S, 3 D

## EMS-PTS526 SKG15 SMTR2 LFS
designator S?, comment TACT 5.2 X 5.2, 1.5 MM H, 260GF,  (value not drawn)
Manufacturer Name: C&K; Manufacturer Part Number: PTS526 SKG15 SMTR2 LFS; Vendor Part Number: CKN12223-1-ND; Internal Part Number: EMS-PTS526 SKG15 SMTR2 LFS; 3rd Auxiliary Field: Non-Illuminated; 1st Auxiliary Field: 12VDC; 4rth Auxiliary Field: ROHS3 Compliant; 2nd Auxiliary Field: 0.05A; Vendor Name: Digikey; Temp Co: -20°C ~ 70°C; Value: PTS526 SKG15 SMTR2 LFS; Part type: TACT 5.2 X 5.2, 1.5 MM H, 260GF,
footprint SW_ PTS526 SKG15 SMTR2 LFS (Footprint not found)
pins: 1, 2, 3, 4

## EMS-PTS645SK50SMTR92_LFS
designator SW?, comment value PTS645SK50SMTR92 LFS  (hidden comment: SWITCH TACTILE SPST-NO 0.05A 12V)
Manufacturer: C&K; Manufacturer Part Number: PTS645SK50SMTR92_LFS; Internal Part Number: EMS-PTS645SK50SMTR92 LFS; Vendor Part Number: CKN9087CT-ND; 3rd Auxiliary Field: ROHS3 Compliant; Component Height (mm): 5.00mm; Temp Co: -20°C ~ 60°C; Vendor Name: Digi-Key; 2nd Auxiliary Field: 0.05A @ 12VDC; Part Type: SWITCH TACTILE SPST-NO 0.05A 12V; 4th Auxiliary Field: *; 1st Auxiliary Field: SPST-NO
footprint SW_PTS645SK43SMTR92 LFS
pins: 1, 2, 3, 4

## EMS-RH100-12.000-18-2020-TR
designator Q?, comment value 12.0000MHz  (hidden comment: CRYSTAL 12.0000MHZ 18PF SMD)
Manufacturer: Raltron Electronics; Manufacturer Part Number: RH100-12.000-18-2020-TR; Internal Part Number: EMS-RH100-12.000-18-2020-TR; Vendor Part Number: 2151-RH100-12.000-18-2020-TRCT-ND; 2nd Auxiliary Field: 12MHz; Component Height (mm): 0.80mm; Temp Co: -20°C ~ 70°C; Vendor Name: Digi-Key; 3rd Auxiliary Field: *; Part Type: CRYSTAL 12.0000MHZ 18PF SMD; 4th Auxiliary Field: *; 1st Auxiliary Field: 18pF
pins: 1 XTAL_IN, 2 XTAL_OUT

## EMS-RH100-12.000-18-2020-TR_1
designator Q?, comment value 12.0000MHz  (hidden comment: CRYSTAL 12.0000MHZ 18PF SMD)
Manufacturer: Raltron Electronics; Manufacturer Part Number: RH100-12.000-18-2020-TR; Internal Part Number: EMS-RH100-12.000-18-2020-TR; Vendor Part Number: 2151-RH100-12.000-18-2020-TRCT-ND; 2nd Auxiliary Field: 12MHz; Component Height (mm): 0.80mm; Temp Co: -20°C ~ 70°C; Vendor Name: Digi-Key; 3rd Auxiliary Field: *; Part Type: CRYSTAL 12.0000MHZ 18PF SMD; 4th Auxiliary Field: *; 1st Auxiliary Field: 18pF
footprint XTAL320X250X08 (Footprint not found)
pins: 1 OSC1, 2 GND, 3 OSC2, 4 GND

## EMS-ZXMN4A06GTA
designator Q?, comment MOSFET N-CH 40V 5A SOT223  (value not drawn)
Manufacturer Part Number: ZXMN4A06GTA; Vendor Part Number: ZXMN4A06GCT-ND; Internal Part Number: EMS-ZXMN4A06GTA; 3rd Auxiliary Field: N-Channel; 4rth Auxiliary Field: ipc-7351-transistor; 2nd Auxiliary Field: 5A (Ta); Manuafacturer Name: Diodes Incorporated; Vendor Name: Digikey; Temp Co: -55°C ~ 150°C (TJ); Component Height(mm): 1.8mm; Value: ZXMN4A06GTA; 1st Auxiliary Field: 40V; Part Type: MOSFET N-CH 40V 5A SOT223
footprint SOT230P700X165-4N (Footprint not found)
pins: 1 G, 3 S, 4 D

## ERE1K00K116-SB-XXXX
designator R?, comment value 1k  2nd Auxiliary Field: ±5%  1st Auxiliary Field: 0.063W, 1/16W  (hidden comment: RES 1K OHM 5% 1/16W 0402)
Manufacturer: Bourns Inc.; Vendor Part Number: RMCF0402JT1K00CT-ND; Manufacturer Part Number: RMCF0402JT1K00; Internal Part Number: ERE1K00K116-SB-XXXX; Vendor Name: Digi-Key; 3rd Auxiliary Field: RoHS Compliant; Component Height (mm): 0.4mm; Temp Co: ±100ppm/°C; Part Type: RES 1K OHM 5% 1/16W 0402; 4th Auxiliary Field: *
footprint SMDR0402 (Footprint not found)
pins: 1, 2

## ERE1K50G116-SB-XXXX
designator R?, comment value 1.5k  2nd Auxiliary Field: ±1%  1st Auxiliary Field: 0.063W, 1/16W  (hidden comment: RES SMD 1.5K OHM 1% 1/16W 0402)
Manufacturer: Bourns Inc.; Vendor Part Number: CR0402-FX-1501GLFCT-ND; Manufacturer Part Number: CR0402-FX-1501GLF; Internal Part Number: ERE1K50G116-SB-XXXX; Vendor Name: Digi-Key; 3rd Auxiliary Field: RoHS Compliant; Component Height (mm): 0.4mm; Temp Co: ±100ppm/°C; Part Type: RES SMD 1.5K OHM 1% 1/16W 0402; 4th Auxiliary Field: *
footprint SMDR0402 (Footprint not found)
pins: 1, 2

## ERE1M00K116-SB-XXXX
designator R?, comment value 1M  2nd Auxiliary Field: ±5%  1st Auxiliary Field: 0.063W, 1/16W  (hidden comment: RES 1M OHM 5% 1/16W 0402)
Manufacturer: Stackpole Electronics Inc; Vendor Part Number: RMCF0402JT1M00CT-ND; Manufacturer Part Number: RMCF0402JT1M00; Internal Part Number: ERE1M00K116-SB-XXXX; Vendor Name: Digi-Key; 3rd Auxiliary Field: RoHS Compliant; Component Height (mm): 0.4mm; Temp Co: ±100ppm/°C; Part Type: RES 1M OHM 5% 1/16W 0402; 4th Auxiliary Field: *
footprint SMDR0402 (Footprint not found)
pins: 1, 2

## ERE2K20G116-SB-XXXX
designator R?, comment value 2.2k  2nd Auxiliary Field: ±1%  1st Auxiliary Field: 0.063W, 1/16W  (hidden comment: RES SMD 2.2K OHM 1% 1/16W 0402)
Manufacturer: Bourns Inc.; Vendor Part Number: CR0402-FX-2201GLFCT-ND; Manufacturer Part Number: CR0402-FX-2201GLF; Internal Part Number: ERE2K20G116-SB-XXXX; Vendor Name: Digi-Key; 3rd Auxiliary Field: RoHS Compliant; Component Height (mm): 0.37mm; Temp Co: ±100ppm/°C; Part Type: RES SMD 2.2K OHM 1% 1/16W 0402; 4th Auxiliary Field: *
footprint SMDR0402 (Footprint not found)
pins: 1, 2

## ERE2K20G116-SB-XXXX_1
designator R?, comment value 2.2k  2nd Auxiliary Field: ±1%  1st Auxiliary Field: 0.063W, 1/16W  (hidden comment: RES 2.2K OHM 1% 1/16W 0402)
Manufacturer: Stackpole Electronics Inc; Vendor Part Number: RMCF0402FT2K20CT-ND; Manufacturer Part Number: RMCF0402FT2K20; Internal Part Number: ERE2K20G116-SB-XXXX; Vendor Name: Digi-Key; 3rd Auxiliary Field: RoHS Compliant; Component Height (mm): 0.4mm; Temp Co: ±100ppm/°C; Part Type: RES 2.2K OHM 1% 1/16W 0402; 4th Auxiliary Field: *
footprint SMDR0402 (Footprint not found)
pins: 1, 2

## ERE4K70K116-SB-XXXX
designator R?, comment value 4.7k  2nd Auxiliary Field: ±5%  1st Auxiliary Field: 0.063W, 1/16W  (hidden comment: RES 5.6K OHM 5% 1/16W 0402)
Manufacturer: Stackpole Electronics Inc; Vendor Part Number: RMCF0402JT4K70CT-ND; Manufacturer Part Number: RMCF0402JT4K70; Internal Part Number: ERE4K70K116-SB-XXXX; Vendor Name: Digi-Key; 3rd Auxiliary Field: RoHS Compliant; Component Height (mm): 0.4mm; Temp Co: ±100ppm/°C; Part Type: RES 4.7K OHM 5% 1/16W 0402; 4th Auxiliary Field: *
footprint SMDR0402 (Footprint not found)
pins: 1, 2

## ERE5K60K116-SB-XXXX
designator R?, comment value 5.6k  2nd Auxiliary Field: ±5%  1st Auxiliary Field: 0.063W, 1/16W  (hidden comment: RES 5.6K OHM 5% 1/16W 0402)
Manufacturer: Stackpole Electronics Inc; Vendor Part Number: RMCF0402JT5K60CT-ND; Manufacturer Part Number: RMCF0402JT5K60; Internal Part Number: ERE5K60K116-SB-XXXX; Vendor Name: Digi-Key; 3rd Auxiliary Field: RoHS Compliant; Component Height (mm): 0.4mm; Temp Co: ±100ppm/°C; Part Type: RES 5.6K OHM 5% 1/16W 0402; 4th Auxiliary Field: *
footprint SMDR0402 (Footprint not found)
pins: 1, 2

## ERE5M00G116-SM-XXXX
designator R?, comment value 0.05R  2nd Auxiliary Field: ±1%  (hidden comment: RES 0.05 OHM 1% 2W 2512)
Manufacturer: Stackpole Electronics Inc; Vendor Part Number: CSRN2512FK50L0CT-ND; Manufacturer Part Number: CSRN2512FK50L0; Internal Part Number: ERE5M00G116-SM-XXXX; Vendor Name: Digi-Key; 4th Auxiliary Field: ROHS3 Compliant; Component Height (mm): 0.70mm; Temp Co: ±200ppm/°C; 1st Auxiliary Field: 0.063W, 1/16W; Part Type: RES 0.05 OHM 1% 2W 2512; 3rd Auxiliary Field: 2W
footprint SMDR0402 (Footprint not found)
pins: 1, 2

## ERE8K20K116-SB-XXXX
designator R?, comment value 8.2k  2nd Auxiliary Field: ±5%  1st Auxiliary Field: 0.063W, 1/16W  (hidden comment: RES 8.2K OHM 5% 1/16W 0402)
Manufacturer: Stackpole Electronics Inc; Vendor Part Number: 738-RMCF0402JT8K20CT-ND; Manufacturer Part Number: RMCF0402JT8K20; Internal Part Number: ERE8K20K116-SB-XXXX; Vendor Name: Digi-Key; 3rd Auxiliary Field: RoHS Compliant; Component Height (mm): 0.4mm; Temp Co: ±100ppm/°C; Part Type: RES 8.2K OHM 5% 1/16W 0402; 4th Auxiliary Field: *
footprint SMDR0402 (Footprint not found)
pins: 1, 2

## ERE10k0K116-SB-XXXX
designator R?, comment value 10k  2nd Auxiliary Field: ±5%  (hidden comment: RES SMD 10K OHM 5% 1/16W 0402)
Manufacturer: Bourns Inc.; Vendor Part Number: CR0402-JW-103GLFCT-ND; Manufacturer Part Number: CR0402-JW-103GLF; Internal Part Number: ERE10k0K116-SB-XXXX; Vendor Name: Digi-Key; 3rd Auxiliary Field: RoHS Compliant; Component Height (mm): 0.4mm; Temp Co: ±200ppm/°C; 1st Auxiliary Field: 0.063W, 1/16W; Part Type: RES SMD 10K OHM 5% 1/16W 0402; 4th Auxiliary Field: *
footprint SMDR0402 (Footprint not found)
pins: 1, 2

## ERE10k0K116-SB-XXXX_1
designator R?, comment value 10k  2nd Auxiliary Field: ±5%  1st Auxiliary Field: 0.063W, 1/16W  (hidden comment: RES SMD 10 KOHM 5% 1/16W 0402)
Manufacturer: Delta Electronics/Cyntec; Vendor Part Number: 2037-PFR05S-103-JNHCT-ND; Manufacturer Part Number: PFR05S-103-JNH; Internal Part Number: ERE10k0K116-SB-XXXX; Vendor Name: Digi-Key; 3rd Auxiliary Field: RoHS Compliant; Component Height (mm): 0.4mm; Temp Co: ±200ppm/°C; Part Type: RES SMD 10 KOHM 5% 1/16W 0402; 4th Auxiliary Field: *
footprint SMDR0402 (Footprint not found)
pins: 1, 2

## ERE12K1G116-SB-XXXX
designator R?, comment value 12.1k  2nd Auxiliary Field: ±1%  1st Auxiliary Field: 0.063W, 1/16W  (hidden comment: RES 12.1K OHM 1% 1/16W 0402)
Manufacturer: Stackpole Electronics Inc; Vendor Part Number: RMCF0402FT12K1CT-ND; Manufacturer Part Number: RMCF0402FT12K1; Internal Part Number: ERE12K1G116-SB-XXXX; Vendor Name: Digi-Key; 3rd Auxiliary Field: RoHS Compliant; Component Height (mm): 0.4mm; Temp Co: ±100ppm/°C; Part Type: RES 12.1K OHM 1% 1/16W 0402; 4th Auxiliary Field: *
footprint SMDR0402 (Footprint not found)
pins: 1, 2

## ERE22R0K116-SB-XXXX
designator R?, comment value 22R  2nd Auxiliary Field: ±5%  1st Auxiliary Field: 0.063W, 1/16W  (hidden comment: RES 22 OHM 5% 1/16W 0402)
Manufacturer: Stackpole Electronics Inc; Vendor Part Number: RMCF0402JT22R0CT-ND; Manufacturer Part Number: RMCF0402JT22R0; Internal Part Number: ERE22R0K116-SB-XXXX; Vendor Name: Digi-Key; 3rd Auxiliary Field: RoHS Compliant; Component Height (mm): 0.4mm; Temp Co: ±100ppm/°C; Part Type: RES 22 OHM 5% 1/16W 0402; 4th Auxiliary Field: *
footprint SMDR0402 (Footprint not found)
pins: 1, 2

## ERE33K0G116-SB-XXXX
designator R?, comment value 33k  2nd Auxiliary Field: ±1%  1st Auxiliary Field: 0.063W, 1/16W  (hidden comment: RES 33K OHM 1% 1/16W 0402)
Manufacturer: Stackpole Electronics Inc; Vendor Part Number: RMCF0402FT33K0CT-ND; Manufacturer Part Number: RMCF0402FT33K0; Internal Part Number: ERE33K0G116-SB-XXXX; Vendor Name: Digi-Key; 3rd Auxiliary Field: RoHS Compliant; Component Height (mm): 0.4mm; Temp Co: ±100ppm/°C; Part Type: RES 33K OHM 1% 1/16W 0402; 4th Auxiliary Field: *
footprint SMDR0402 (Footprint not found)
pins: 1, 2

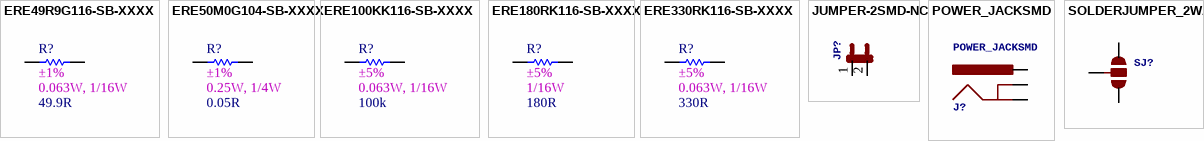
[diagram p2: symbols ERE49R9G116-SB-XXXX to SOLDERJUMPER_2WAYS]

## ERE49R9G116-SB-XXXX
designator R?, comment value 49.9R  2nd Auxiliary Field: ±1%  1st Auxiliary Field: 0.063W, 1/16W  (hidden comment: RES 49.9 OHM 1% 1/16W 0402)
Manufacturer: Stackpole Electronics Inc; Vendor Part Number: RMCF0402FT49R9CT-ND; Manufacturer Part Number: RMCF0402FT49R9; Internal Part Number: ERE49R9G116-SB-XXXX; Vendor Name: Digi-Key; 3rd Auxiliary Field: RoHS Compliant; Component Height (mm): 0.4mm; Temp Co: ±100ppm/°C; Part Type: RES 49.9 OHM 1% 1/16W 0402; 4th Auxiliary Field: *
footprint SMDR0402 (Footprint not found)
pins: 1, 2

## ERE50M0G104-SB-XXXX
designator R?, comment value 0.05R  2nd Auxiliary Field: ±1%  1st Auxiliary Field: 0.25W, 1/4W  (hidden comment: RES 0.05 OHM 1% 1/4W 0402)
Manufacturer: Panasonic Electronic Components; Vendor Part Number: P17367CT-ND; Manufacturer Part Number: ERJ-2BWFR050X; Internal Part Number: ERE50M0G104-SB-XXXX; Vendor Name: Digi-Key; 3rd Auxiliary Field: RoHS Compliant; Component Height (mm): 0.4mm; Temp Co: ±100ppm/°C; Part Type: RES 0.05 OHM 1% 1/4W 0402; 4th Auxiliary Field: *
footprint SMDR0402 (Footprint not found)
pins: 1, 2

## ERE100KK116-SB-XXXX
designator R?, comment value 100k  2nd Auxiliary Field: ±5%  1st Auxiliary Field: 0.063W, 1/16W  (hidden comment: RES 100K OHM 5% 1/16W 0402)
Manufacturer: Stackpole Electronics Inc; Vendor Part Number: RMCF0402JT100KCT-ND; Manufacturer Part Number: RMCF0402JT100K; Internal Part Number: ERE100KK116-SB-XXXX; Vendor Name: Digi-Key; 3rd Auxiliary Field: RoHS Compliant; Component Height (mm): 0.4mm; Temp Co: ±100ppm/°C; Part Type: RES 100K OHM 5% 1/16W 0402; 4th Auxiliary Field: *
footprint SMDR0402 (Footprint not found)
pins: 1, 2

## ERE180RK116-SB-XXXX
designator R?, comment value 180R  2nd Auxiliary Field: ±5%  1st Auxiliary Field: 1/16W  (hidden comment: RES 180 OHM 5% 1/16W 0402)
Manufacturer: Stackpole Electronics Inc; Vendor Part Number: RMCF0402JT180RCT-ND; Manufacturer Part Number: RMCF0402JT180R; Internal Part Number: ERE180RK116-SB-XXXX; Vendor Name: Digi-Key; 3rd Auxiliary Field: RoHS Compliant; Component Height (mm): 0.4mm; Temp Co: ±100ppm/°C; Part Type: RES 180 OHM 5% 1/16W 0402; 4th Auxiliary Field: *
footprint SMDR0402 (Footprint not found)
pins: 1, 2

## ERE330RK116-SB-XXXX
designator R?, comment value 330R  2nd Auxiliary Field: ±5%  1st Auxiliary Field: 0.063W, 1/16W  (hidden comment: RES 330 OHM 5% 1/16W 0402)
Manufacturer: Stackpole Electronics Inc; Vendor Part Number: RMCF0402JT330RCT-ND; Manufacturer Part Number: RMCF0402JT330R; Internal Part Number: ERE330RK116-SB-XXXX; Vendor Name: Digi-Key; 3rd Auxiliary Field: RoHS Compliant; Component Height (mm): 0.4mm; Temp Co: ±100ppm/°C; Part Type: RES 330 OHM 5% 1/16W 0402; 4th Auxiliary Field: *
footprint SMDR0402 (Footprint not found)
pins: 1, 2

## JUMPER-2SMD-NC
designator JP?  (value not drawn)
JumperBasic 0.1" spaced jumper. Use with breakaway headers.; GateName_1: A; DeviceName: SMD-NC; SymbolName_1: JUMPER-2; LibraryName: SparkFun; DeviceSetName: JUMPER-2
footprint SJ_2S
pins: 1, 2